# EAGLE library part 68HC908LJ12 (library micro-motorola)
MICROCONTROLLER/MEMORY DEVICE
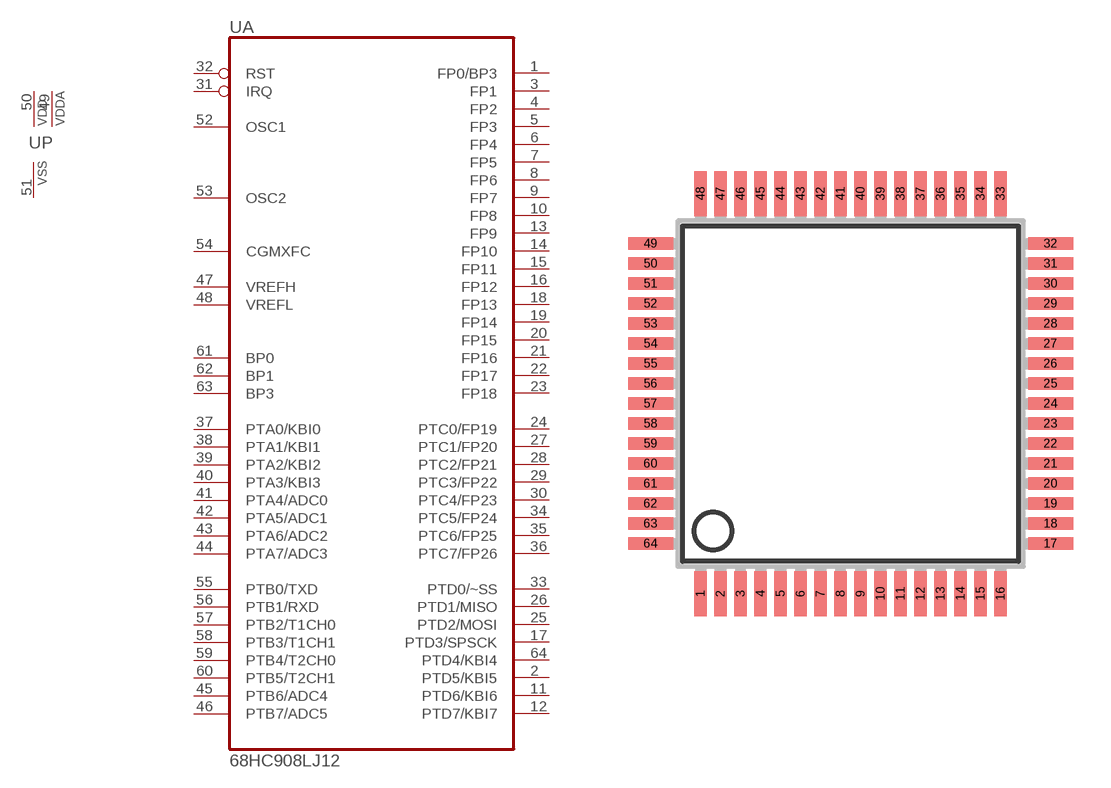
[diagram p80: symbol with the pads of SQFP-S-14X14-64; footprint SQFP-S-14X14-64]

Designator prefix U; gates A=68HC908LJ12 P=2PWRVDDA

## 68HC908LJ12CFU  [SQFP-S-14X14-64]
1  A:FP0/BP3
2  A:PTD5/KBI5
3  A:FP1
4  A:FP2
5  A:FP3
6  A:FP4
7  A:FP5
8  A:FP6
9  A:FP7
10  A:FP8
11  A:PTD6/KBI6
12  A:PTD7/KBI7
13  A:FP9
14  A:FP10
15  A:FP11
16  A:FP12
17  A:PTD3/SPSCK
18  A:FP13
19  A:FP14
20  A:FP15
21  A:FP16
22  A:FP17
23  A:FP18
24  A:PTC0/FP19
25  A:PTD2/MOSI
26  A:PTD1/MISO
27  A:PTC1/FP20
28  A:PTC2/FP21
29  A:PTC3/FP22
30  A:PTC4/FP23
31  A:IRQ  in
32  A:RST  in
33  A:PTD0/~SS
34  A:PTC5/FP24
35  A:PTC6/FP25
36  A:PTC7/FP26
37  A:PTA0/KBI0
38  A:PTA1/KBI1
39  A:PTA2/KBI2
40  A:PTA3/KBI3
41  A:PTA4/ADC0
42  A:PTA5/ADC1
43  A:PTA6/ADC2
44  A:PTA7/ADC3
45  A:PTB6/ADC4
46  A:PTB7/ADC5
47  A:VREFH
48  A:VREFL
49  P:VDDA  pwr
50  P:VDD  pwr
51  P:VSS  pwr
52  A:OSC1  pas
53  A:OSC2  pas
54  A:CGMXFC
55  A:PTB0/TXD
56  A:PTB1/RXD
57  A:PTB2/T1CH0
58  A:PTB3/T1CH1
59  A:PTB4/T2CH0
60  A:PTB5/T2CH1
61  A:BP0
62  A:BP1
63  A:BP3
64  A:PTD4/KBI4

## Footprint SQFP-S-14X14-64 (pad centres in mm)
QFP64 shrink quad flat pack, square
smd 0.5 x 1.8: 1 -6,-8; 2 -5.2,-8; 3 -4.4,-8; 4 -3.6,-8; 5 -2.8,-8; 6 -2,-8; 7 -1.2,-8; 8 -0.4,-8; 9 0.4,-8; 10 1.2,-8; 11 2,-8; 12 2.8,-8; 13 3.6,-8; 14 4.4,-8; 15 5.2,-8; 16 6,-8; 33 6,8; 34 5.2,8; 35 4.4,8; 36 3.6,8; 37 2.8,8; 38 2,8; 39 1.2,8; 40 0.4,8; 41 -0.4,8; 42 -1.2,8; 43 -2,8; 44 -2.8,8; 45 -3.6,8; 46 -4.4,8; 47 -5.2,8; 48 -6,8
smd 1.8 x 0.5: 17 8,-6; 18 8,-5.2; 19 8,-4.4; 20 8,-3.6; 21 8,-2.8; 22 8,-2; 23 8,-1.2; 24 8,-0.4; 25 8,0.4; 26 8,1.2; 27 8,2; 28 8,2.8; 29 8,3.6; 30 8,4.4; 31 8,5.2; 32 8,6; 49 -8,6; 50 -8,5.2; 51 -8,4.4; 52 -8,3.6; 53 -8,2.8; 54 -8,2; 55 -8,1.2; 56 -8,0.4; 57 -8,-0.4; 58 -8,-1.2; 59 -8,-2; 60 -8,-2.8; 61 -8,-3.6; 62 -8,-4.4; 63 -8,-5.2; 64 -8,-6